# EAGLE library part ISCP (library - Jins eagle lbr)
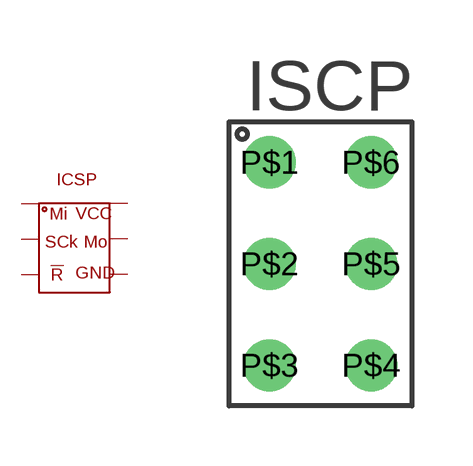
[diagram p5: symbol with the pads of ISCP; footprint ISCP]

Designator prefix -

## ISCP-6PINS  [ISCP]
P$1  P$1
P$2  P$2
P$3  P$3
P$4  P$4
P$5  P$5
P$6  P$6

## Footprint ISCP (pad centres in mm)
drill 0.8: P$1 -2.54,2.54; P$2 -2.54,0; P$3 -2.54,-2.54; P$4 0,-2.54; P$5 0,0; P$6 0,2.54